# Altium schematic symbol library MCU.SchLib: 78 symbols (part 2 of 2)
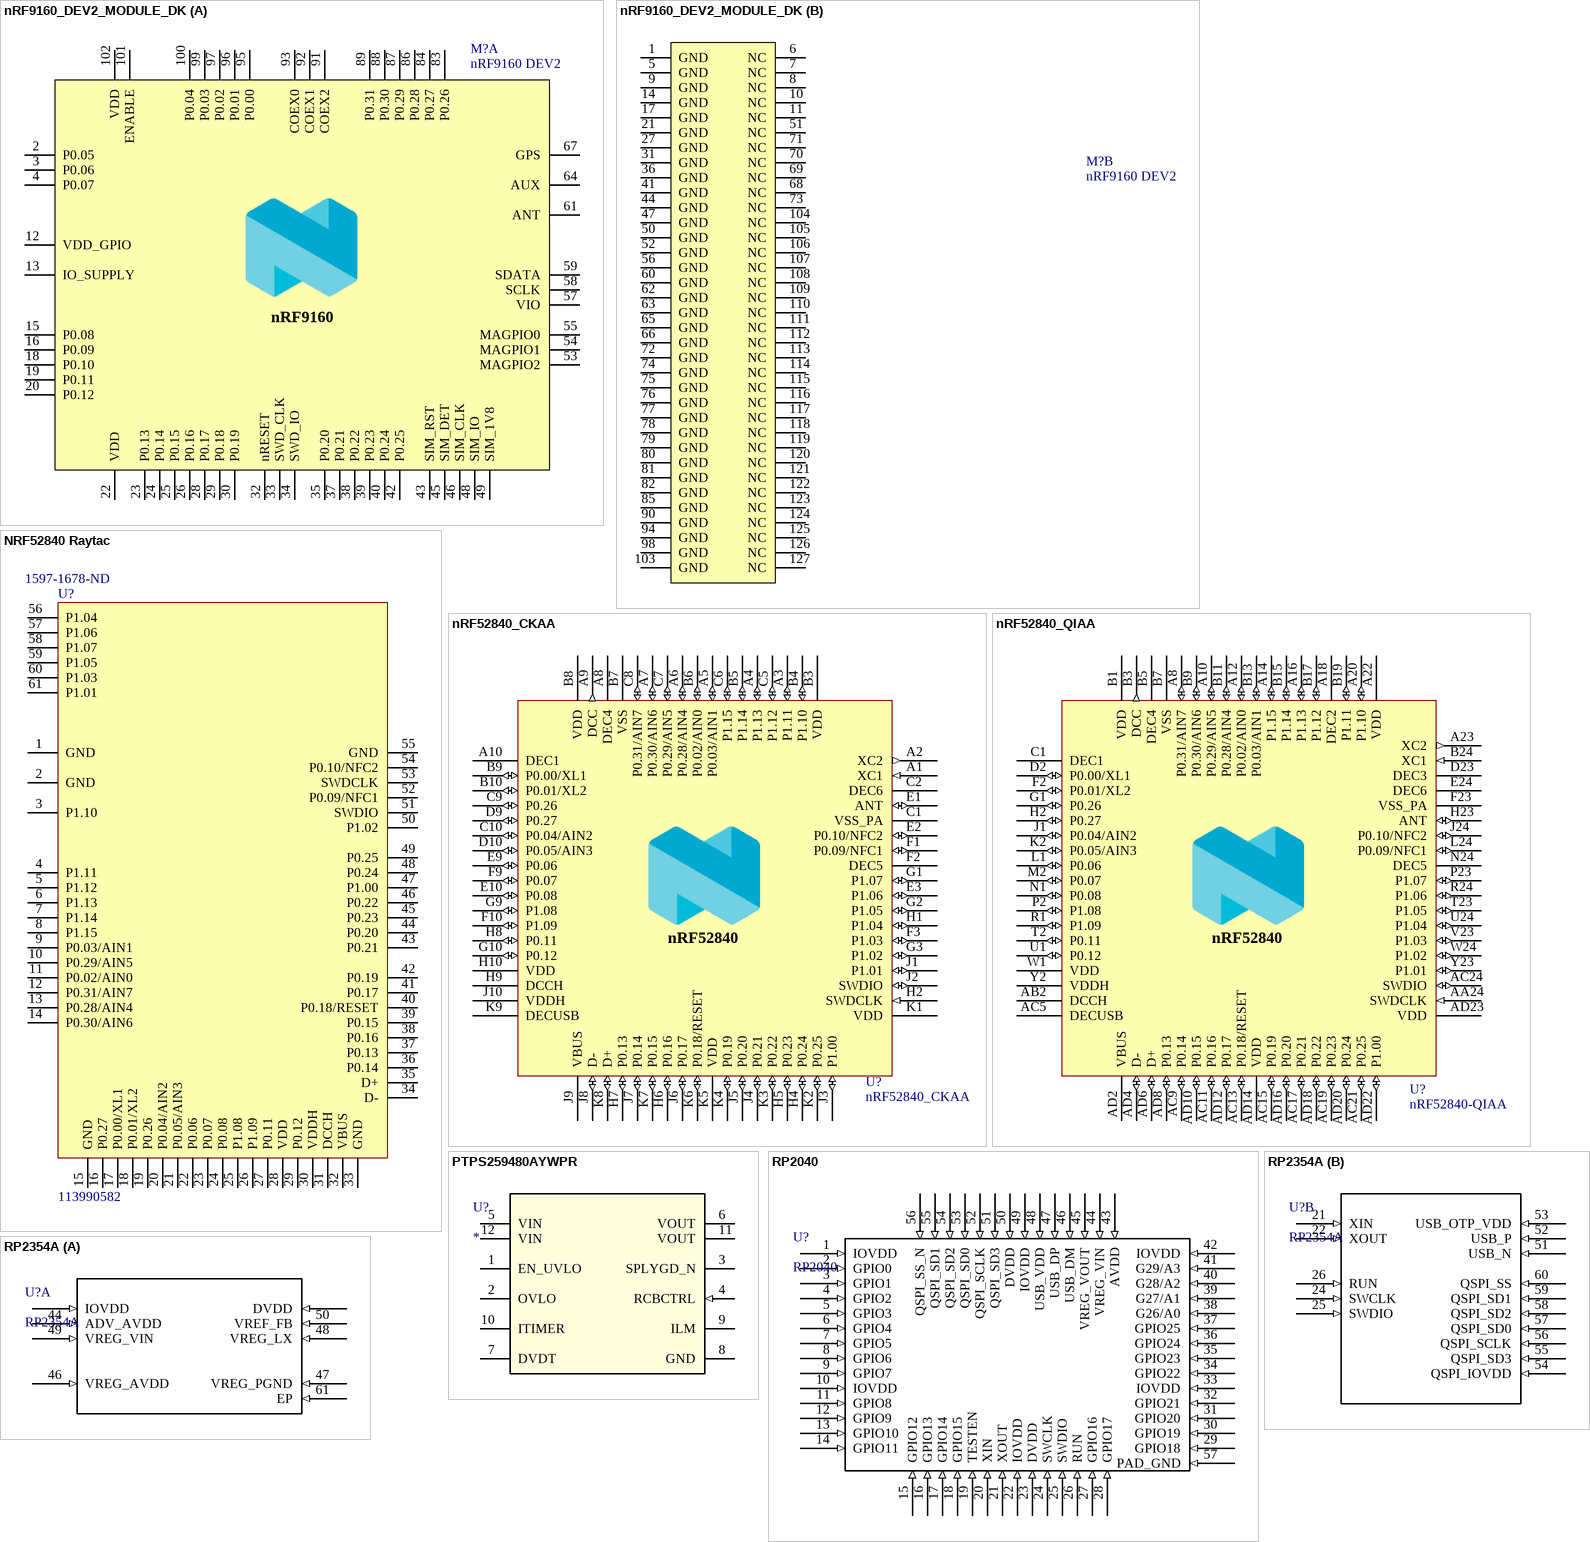
[diagram p8: symbols nRF9160_DEV2_MODULE_DK to RP2354A]

## nRF52840_QIAA
designator U?, comment nRF52840-QIAA
Multi-protocol Bluetooth Low Energy, IEEE 802.15.4, ANT and 2.4GHz proprietary system-on-chip; Part Number: nRF52840-QIAAC0; Manufacturer: Nordic Semiconductor; Part number IPS: N.A.; Artikkelnr Noca: 15079380; Manufacturer Part Number: nRF52840-QIAAC0; LatestRevisionDate: 2018-02-27; Pin Count: 73; Publisher: Nordic Semiconductor; Published: 2017-08-21; Value: nRF52840-QIAA; Note: *; Footprint Doc: AQFN-73; ComponentLink1URL: *; ComponentLink1Description: Datasheet; ComponentLink2URL: *; ComponentLink2Description: Supplier link; HelpURL: *; Supplier 1: Nordic Semiconductor; Supplier Part Number 1: nRF52840-QIAAC0; Supplier 2: *; Supplier Part Number 2: *
footprint AQFN50P700X700X85_HS-74N
pins: 74 GND (power) hidden to GND, A8 P0.31/AIN7 (io), A10 P0.29/AIN5 (io), A12 P0.02/AIN0 (io), A14 P1.15 (io), A16 P1.13 (io), A18 DEC2 (power), A20 P1.10 (io), A22 VDD (power), A23 XC2 (out), AA24 SWDCLK (in), AB2 DCCH (power), AC5 DECUSB (power), AC9 P0.14 (io), AC11 P0.16 (io), AC13 P0.18/RESET (io), AC15 P0.19 (io), AC17 P0.21 (io), AC19 P0.23 (io), AC21 P0.25 (io), AC24 SWDIO (io), AD2 VBUS (power), AD4 D- (io), AD6 D+ (io), AD8 P0.13 (io), AD10 P0.15 (io), AD12 P0.17 (io), AD14 VDD (power), AD16 P0.20 (io), AD18 P0.22 (io), AD20 P0.24 (io), AD22 P1.00 (io), AD23 VDD (power), B1 VDD (power), B3 DCC (out), B5 DEC4 (power), B7 VSS (power), B9 P0.30/AIN6 (io), B11 P0.28/AIN4 (io), B13 P0.03/AIN1 (io), B15 P1.14 (io), B17 P1.12 (io), B19 P1.11 (io), B24 XC1 (in), C1 DEC1 (power), D2 P0.00/XL1 (io), D23 DEC3 (power), E24 DEC6 (power), F2 P0.01/XL2 (io), F23 VSS_PA (power), G1 P0.26 (io), H2 P0.27 (io), H23 ANT (io), J1 P0.04/AIN2 (io), J24 P0.10/NFC2 (io), K2 P0.05/AIN3 (io), L1 P0.06 (io), L24 P0.09/NFC1 (io), M2 P0.07 (io), N1 P0.08 (io), N24 DEC5 (power), P2 P1.08 (io), P23 P1.07 (io), R1 P1.09 (io), R24 P1.06 (io), T2 P0.11 (io), T23 P1.05 (io), U1 P0.12 (io), U24 P1.04 (io), V23 P1.03 (io), W1 VDD (power), W24 P1.02 (io), Y2 VDDH (power), Y23 P1.01 (io)
text: nRF52840

## PTPS259480AYWPR
designator U?
No Description Available; Mfr_Name: Texas Instruments; TYPE: TYPE; RefDes: RefDes
footprint YWP0012A-MFG
pins: 1 EN_UVLO, 2 OVLO, 3 SPLYGD_N (oc), 4 RCBCTRL (in), 5 VIN (power), 6 VOUT (power), 7 DVDT, 8 GND (power), 9 ILM, 10 ITIMER, 11 VOUT (power), 12 VIN (power)

## RP2040
designator U?
RP2040 First MCU from RPI
footprint RP2040
pins: 1 IOVDD (in), 2 GPIO0 (in), 3 GPIO1 (in), 4 GPIO2 (in), 5 GPIO3 (in), 6 GPIO4 (in), 7 GPIO5 (in), 8 GPIO6 (in), 9 GPIO7 (in), 10 IOVDD (in), 11 GPIO8 (in), 12 GPIO9 (in), 13 GPIO10 (in), 14 GPIO11 (in), 15 GPIO12 (in), 16 GPIO13 (in), 17 GPIO14 (in), 18 GPIO15 (in), 19 TESTEN (in), 20 XIN (in), 21 XOUT (in), 22 IOVDD (in), 23 DVDD (in), 24 SWCLK (in), 25 SWDIO (in), 26 RUN (in), 27 GPIO16 (in), 28 GPIO17 (in), 29 GPIO18 (in), 30 GPIO19 (in), 31 GPIO20 (in), 32 GPIO21 (in), 33 IOVDD (in), 34 GPIO22 (in), 35 GPIO23 (in), 36 GPIO24 (in), 37 GPIO25 (in), 38 G26/A0 (in), 39 G27/A1 (in), 40 G28/A2 (in), 41 G29/A3 (in), 42 IOVDD (in), 43 AVDD (in), 44 VREG_VIN (in), 45 VREG_VOUT (in), 46 USB_DM (in), 47 USB_DP (in), 48 USB_VDD (in), 49 IOVDD (in), 50 DVDD (in), 51 QSPI_SD3 (in), 52 QSPI_SCLK (in), 53 QSPI_SD0 (in), 54 QSPI_SD2 (in), 55 QSPI_SD1 (in), 56 QSPI_SS_N (in), 57 PAD_GND (in)

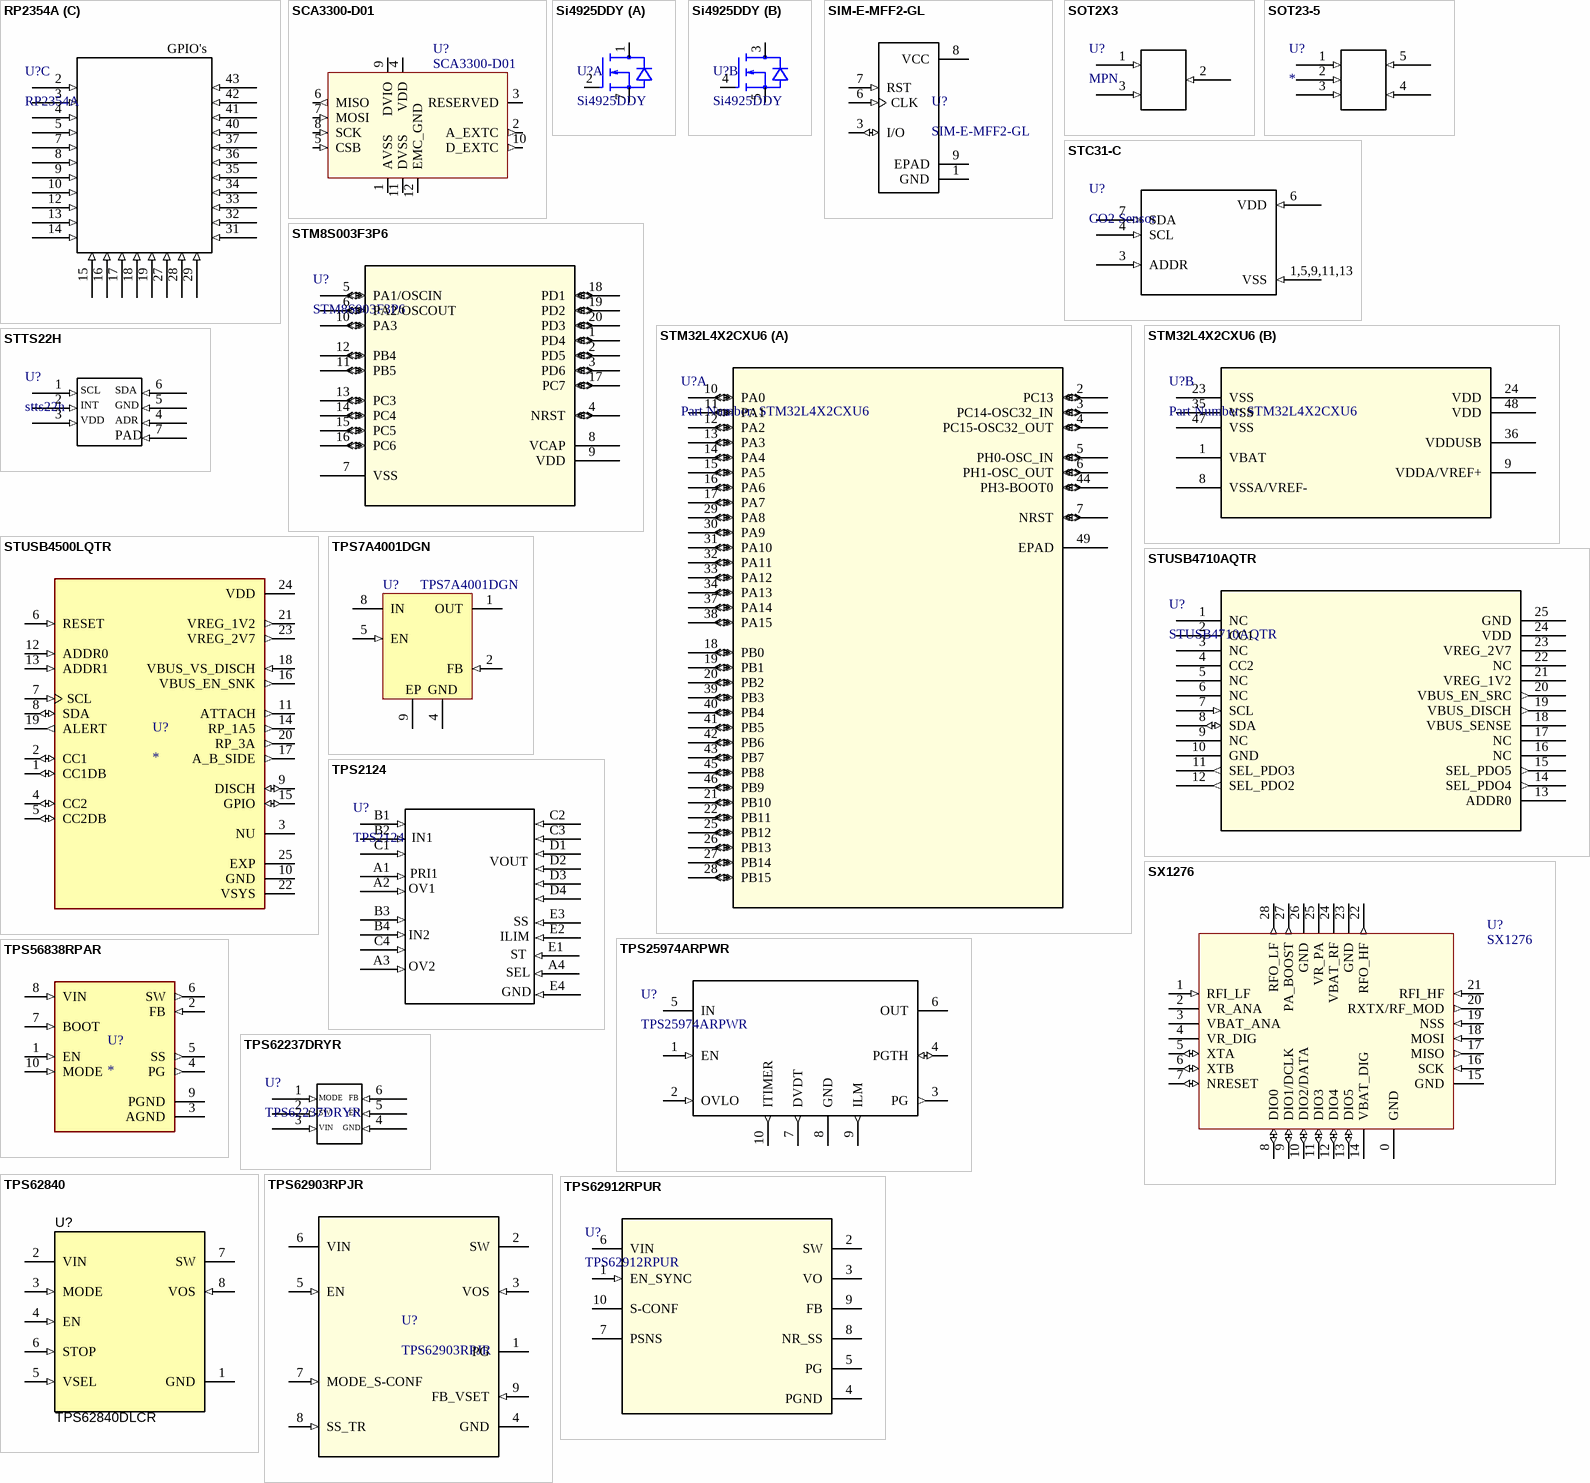
[diagram p6: symbols RP2354A to TPS62912RPUR]

## RP2354A
designator U?
RP2354A: 30 GPIO, 7x7 QFN60, 2MB stacked flash
footprint RP2354A (QFN, 60-Leads, Body 7.00x7.00mm, Pitch 0.40mm, Thermal Pad 3.40x3.40mm, IPC High Density)
part A pins: 1,11,30,38,45,20 IOVDD (in), 6,23,39 DVDD (in), 44 ADV_AVDD (in), 46 VREG_AVDD (in), 47 VREG_PGND (in), 48 VREG_LX (in), 49 VREG_VIN (in), 50 VREF_FB (in), 61 EP (in)
part B pins: 21 XIN (in), 22 XOUT (in), 24 SWCLK (in), 25 SWDIO (in), 26 RUN (in), 51 USB_N (in), 52 USB_P (in), 53 USB_OTP_VDD (in), 54 QSPI_IOVDD (in), 55 QSPI_SD3 (in), 56 QSPI_SCLK (in), 57 QSPI_SD0 (in), 58 QSPI_SD2 (in), 59 QSPI_SD1 (in), 60 QSPI_SS (in)
part C pins: 2 (in), 3 (in), 4 (in), 5 (in), 7 (in), 8 (in), 9 (in), 10 (in), 12 (in), 13 (in), 14 (in), 15 (in), 16 (in), 17 (in), 18 (in), 19 (in), 27 (in), 28 (in), 29 (in), 31 (in), 32 (in), 33 (in), 34 (in), 35 (in), 36 (in), 37 (in), 40 (in), 41 (in), 42 (in), 43 (in)
part C text: GPIO's

## SCA3300-D01
designator U?
SCA3300-D01 3-axis Industrial Accelerometer and Inclinometer with Digital SPI Interface, Supply 3V0 .. 3V6, OpTemp -40 .. 125°C; RevisionEditor: jansen; RevisionNr: 0; Part Number: SCA 3300-D01; Component Type: Standard; Footprint: SCA3300-D01; ComponentLink2Description: Datasheet; ComponentLink2URL: http://tssx1/Datasheet/SCA 3300-D01.pdf; RevisionDate: 28.03.2018 13:07:14; Approved: 0; Supplier Part Number 1: 2786923; Supplier 1: Farnell
footprint SCA3300-D01
pins: 1 AVSS (power) "Analog reference ground, connect externally to AVSS", 2 A_EXTC (out) "External capacitor connection for positive reference voltage", 3 RESERVED "Factory use only, leave floating or connect to GND", 4 VDD (power) "Analog Supply voltage", 5 CSB (in) "Chip Select of SPI Interface, 3.3V logic compatible Schmitt-trigger input", 6 MISO (out) "Data Out of SPI Interface", 7 MOSI (in) "Data In of SPI Interface, 3.3V logic compatible Schmitt-trigger input", 8 SCK (in) "CLK signal of SPI Interface", 9 DVIO (power) "SPI interface Supply Voltage", 10 D_EXTC (out) "External capacitor connection for digital core", 11 DVSS (power) "Digital Supply Return, connect externally to GND", 12 EMC_GND (power) "EMC ground pin, connect externally to AVSS"

## Si4925DDY
designator U?
Si4925DDY, dual mosfet
footprint si4925dd (Dual Mosfet)
part A pins: 1 D, 2 G, 7 S
part B pins: 3 D, 4 G, 5 S

## SIM-E-MFF2-GL
designator U?
GLOBAL IOT EMBEDDED SIM CHIP, SIM-E-MFF2-GL; MP: SIM-ST-MFF2; MF: Hologram, Inc.; SnapEDA_Link: https://www.snapeda.com/parts/SIM-ST-MFF2/Hologram%2C%20Inc./view-part/3075908/?ref=snap; Availability: Unavailable; Price: None; Value: *; Package: None
footprint PSON127P500X600X82-9N
pins: 1 GND (power), 3 I/O (io), 6 CLK (in), 7 RST (in), 8 VCC (power), 9 EPAD

## SOT2X3
designator U?, comment MPN
Generic Sot223 or Sot23-3 package 3 pin
footprint SOT223 (SOT223, Pitch 0.95mm, IPC High Density)
footprint SOT23-3 (SOT23, 5-Leads, Body 2.95x2.80mm, Pitch 0.95mm, IPC High Density)
footprint BSS316NH6327XTSA1 (SOT23, 5-Leads, Body 2.95x2.80mm, Pitch 0.95mm, IPC High Density)
pins: 1 (in), 2 (in), 3 (in)

## SOT23-5
designator U?
Generic Sot23 5 pin package
footprint SOT23-5_L
pins: 1 (in), 2 (in), 3 (in), 4 (in), 5 (in)

## STC31-C
designator U?, comment CO2 Sensor
CO₂ accuracy of ±(0.2 - 2.0 vol%) @0-100 vol%
footprint STC31-C (Footprint not found)
pins: 1,5,9,11,13 VSS (in), 3 ADDR (in), 4 SCL (in), 6 VDD (in), 7 SDA (in)

## STM8S003F3P6
designator U?
No Description Available; Vendor: STMicroelectronics; Built_By: EMA_UL_Team; SourceLibrary: Updates_to_database_2020-10-19; Manufacturer_Part_Number: STM8S003F3P6; Copyright: Copyright (C) 2018 Accelerated Designs. All rights reserved; RefDes: RefDes; Type: DEV
footprint TSSOP20
pins: 1 PD4 (io), 2 PD5 (io), 3 PD6 (io), 4 NRST (io), 5 PA1/OSCIN (io), 6 PA2/OSCOUT (io), 7 VSS (power), 8 VCAP (power), 9 VDD (power), 10 PA3 (io), 11 PB5 (io), 12 PB4 (io), 13 PC3 (io), 14 PC4 (io), 15 PC5 (io), 16 PC6 (io), 17 PC7 (io), 18 PD1 (io), 19 PD2 (io), 20 PD3 (io)

## STM32L4X2CXU6
designator U?, comment Part Number: STM32L4X2CXU6
No Description Available; Vendor: STMicroelectronics; Manufacturer_Part_Number: STM32L4X2CXU6; Copyright: Copyright (C) 2016 Accelerated Designs. All rights reserved; RefDes: RefDes; Type: DEV; Value: Value
footprint UFQFPN48-7x7mm
part A pins: 2 PC13 (io), 3 PC14-OSC32_IN (io), 4 PC15-OSC32_OUT (io), 5 PH0-OSC_IN (io), 6 PH1-OSC_OUT (io), 7 NRST (io), 10 PA0 (io), 11 PA1 (io), 12 PA2 (io), 13 PA3 (io), 14 PA4 (io), 15 PA5 (io), 16 PA6 (io), 17 PA7 (io), 18 PB0 (io), 19 PB1 (io), 20 PB2 (io), 21 PB10 (io), 22 PB11 (io), 25 PB12 (io), 26 PB13 (io), 27 PB14 (io), 28 PB15 (io), 29 PA8 (io), 30 PA9 (io), 31 PA10 (io), 32 PA11 (io), 33 PA12 (io), 34 PA13 (io), 37 PA14 (io), 38 PA15 (io), 39 PB3 (io), 40 PB4 (io), 41 PB5 (io), 42 PB6 (io), 43 PB7 (io), 44 PH3-BOOT0 (io), 45 PB8 (io), 46 PB9 (io), 49 EPAD
part B pins: 1 VBAT (power), 8 VSSA/VREF- (power), 9 VDDA/VREF+ (power), 23 VSS (power), 24 VDD (power), 35 VSS (power), 36 VDDUSB (power), 47 VSS (power), 48 VDD (power)

## STTS22H
designator U?, comment stts22h
I2C temperature sensor, Low power 0.5C accuracy. Factory calibrated -40 to 125C. ADDR=GND (0x7E Write, 0x7F Read); ComponentLink1Description: Datasheet; ComponentLink1URL: https://www.st.com/resource/en/datasheet/stts22h.pdf; Supplier 1: Mouser; Supplier Part Number 1: 511-STTS22HTR
footprint STTS22H
pins: 1 (in), 2 (in), 3 (in), 4 (in), 5 (in), 6 (in), 7 (in)
text: SCL; SDA; INT; GND; VDD; ADR; PAD

## STUSB4500LQTR
designator U?
USB Controller USB 2.0 IÂ²C Interface 24-QFN-EP (4x4); MF: STMicroelectronics; MP: STUSB4500LQTR; Check_prices: https://www.snapeda.com/parts/STUSB4500LQTR/STMicroelectronics/view-part/4725448/?ref=eda; Availability: Warning; Price: None; SnapEDA_Link: https://www.snapeda.com/parts/STUSB4500LQTR/STMicroelectronics/view-part/4725448/?ref=snap; Value: *; Package: VFQFN-24 STMicroelectronics; Purchase-URL: https://pricing.snapeda.com/search/part/STUSB4500LQTR/?ref=eda
footprint QFN50P400X400X100-25N
pins: 1 CC1DB (io), 2 CC1 (io), 3 NU, 4 CC2 (io), 5 CC2DB (io), 6 RESET (in), 7 SCL (in), 8 SDA (io), 9 DISCH (io), 10 GND (power), 11 ATTACH (out), 12 ADDR0 (in), 13 ADDR1 (in), 14 RP_1A5 (out), 15 GPIO (io), 16 VBUS_EN_SNK (out), 17 A_B_SIDE (out), 18 VBUS_VS_DISCH (in), 19 ALERT (out), 20 RP_3A (out), 21 VREG_1V2 (out), 22 VSYS (power), 23 VREG_2V7 (out), 24 VDD (power), 25 EXP (power)

## STUSB4710AQTR
designator U?
No Description Available; Vendor: STMicroelectronics; Built_By: EMA_Cory; SourceLibrary: Add_to_database_2020-12-21; Datasheet: https://www.st.com/resource/en/datasheet/stusb4710.pdf; Manufacturer_Part_Number: STUSB4710AQTR; Copyright: Copyright (C) 2018 Accelerated Designs. All rights reserved; RefDes: RefDes; Type: DEV
footprint STUSB4710AQTR (Footprint not found)
pins: 1 NC, 2 CC1, 3 NC, 4 CC2, 5 NC, 6 NC, 7 SCL (in), 8 SDA (io), 9 NC, 10 GND, 11 SEL_PDO3 (out), 12 SEL_PDO2 (out), 13 ADDR0, 14 SEL_PDO4 (out), 15 SEL_PDO5 (out), 16 NC, 17 NC, 18 VBUS_SENSE, 19 VBUS_DISCH (out), 20 VBUS_EN_SRC (out), 21 VREG_1V2, 22 NC, 23 VREG_2V7, 24 VDD (power), 25 GND

## SX1276
designator U?
SX1276 - 137 MHz to 1020 MHz Low Power Long Range Transceiver
footprint SEMTECH_QFN-28
pins: 0 GND (power), 1 RFI_LF (in) "RF input for bands 2&3", 2 VR_ANA (power) "Regulated supply voltage for analogue circuitry", 3 VBAT_ANA (power) "Supply voltage for analogue circuitry", 4 VR_DIG (power) "Regulated supply voltage for digital blocks", 5 XTA (io) "XTAL connection or TCXO input", 6 XTB (io) "XTAL connection", 7 NRESET (io) "Reset trigger input", 8 DIO0 (io) "Digital I/O, software configured", 9 DIO1/DCLK (io) "Digital I/O, software configured", 10 DIO2/DATA (io) "Digital I/O, software configured", 11 DIO3 (io) "Digital I/O, software configured", 12 DIO4 (io) "Digital I/O, software configured", 13 DIO5 (io) "Digital I/O, software configured", 14 VBAT_DIG (power) "Supply voltage for digital blocks", 15 GND (power), 16 SCK (in) "SPI Clock input", 17 MISO (out) "SPI Data output", 18 MOSI (in) "SPI Data input", 19 NSS (in) "SPI Chip select input", 20 RXTX/RF_MOD (out) "Rx/Tx switch control: high in Tx", 21 RFI_HF (in) "RF input for band 1", 22 RFO_HF (out) "RF output for band 1", 23 GND (power), 24 VBAT_RF (power) "Supply voltage for RF blocks", 25 VR_PA (power) "Regulated supply for the PA", 26 GND (power), 27 PA_BOOST (out) "Optional high-power PA output, all frequency bands", 28 RFO_LF (out) "RF output for bands 2&3"

## TPS7A4001DGN
designator U?
100V Input, 50mA, Single Output Low-Dropout Linear Regulator, Texas Instruments; RevisionEditor: cousin; RevisionNr: 0; Part Number: TPS7A4001DGN; Component Type: Standard; Footprint: DGN_R-PDSO-G8_TI; ComponentLink2Description: Datasheet; ComponentLink2URL: http://tssx1/Datasheet/TPS7A4001DGN.pdf; RevisionDate: 12.03.2018 18:06:18; Approved: 0; LastModifier: cousin; Supplier Part Number 1: 595-TPS7A4001DGNT; Supplier 1: Mouser
footprint DGN_R-PDSO-G8_TI
pins: 1 OUT (power) "Regulator output. A capacitor greater than 4.7 uF must be tied from this pin to ground to assure stability.", 2 FB (in) "This pin is the input to the control-loop error amplifier. It is used to set the output voltage of the device.", 4 GND (power) "Ground", 5 EN (in) "This pin turns the regulator on or off. If VEN >= VEN_HI the regulator is enabled. If VEN =< VEN_LO, the regulator is disabled. If not used, the EN pin can be connected to IN. Make sure that VEN =< VIN at all times.", 8 IN (power) "Input supply", 9 EP (power) "Solder to printed circuit board (PCB) to enhance thermal performance. NOTE: The PowerPAD is internally connected to GND. Although it can be left floating, it is highly recommended to connect the PowerPAD to the GND plane."

## TPS2124
designator U?
2.8-V to 22-V 2A priority power MUX with seamless switchover
footprint TPS2124 (priority power MUX with seamless switchover)
pins: A1 (in), A2 (in), A3 (in), A4 (in), B1 (in), B2 (in), B3 (in), B4 (in), C1 (in), C2 (in), C3 (in), C4 (in), D1 (in), D2 (in), D3 (in), D4 (in), E1 (in), E2 (in), E3 (in), E4 (in)
text: IN1; VOUT; PRI1; OV1; SS; IN2; ILIM; ST; OV2; SEL; GND

## TPS25974ARPWR
designator U?
IC ELECTRONIC FUSE 10% 10VQFN; Mfr_Name: Texas Instruments; RefDes: RefDes; Type: Type
footprint TPS25974ARPWR (eFuse)
pins: 1 EN (in), 2 OVLO (in), 3 PG (out), 4 PGTH (io), 5 IN (power), 6 OUT (power), 7 DVDT (out), 8 GND (power), 9 ILM (out), 10 ITIMER (out)

## TPS56838RPAR
designator U?
MP: TPS56838RPAR; Package: None; Price: None; Value: *; Availability: Unavailable
footprint CONV_TPS56838RPAR (Footprint not found)
pins: 1 EN (in), 2 FB (in), 3 AGND (power), 4 PG (out), 5 SS (out), 6 SW (out), 7 BOOT (in), 8 VIN (in), 9 PGND (power), 10 MODE (in)

## TPS62237DRYR
designator U?
DC regulator 5VIN 3V3VOUT
footprint TPS62237DRYR
pins: 1 (in), 2 (in), 3 (in), 4 (in), 5 (in), 6 (in)
text: MODE; FB; SW; EN; VIN; GND

## TPS62840
designator U?, comment TPS62840DLCR
Ultra low IQ Step Down Converter, DLC0008A (VSON-HR-8); Alternate Manufacturer: Texas Instruments; SizeAreaWB_mm2: 7.5; SizeZ_mm: 1; SizeX_mm: 1.5; SizeY_mm: 2; SizeArea_mm2: 3; CompType: IC; AEC Qualified: N; AEC Category: Q200; ComponentLink1URL: http://www.ti.com/lit/ds/symlink/tps62840.pdf; PackageDescription: VSON-HR-8; MountType: SMT; ComponentLink2URL: http://www.ti.com/product/tps62840; ComponentLink3Description: Online Datasheet; ComponentLink2Description: Product Folder; Manufacturer: Texas Instruments; ComponentLink3URL: http://www.ti.com/product/tps62840/datasheet; PackageReference: DLC0008A; ComponentLink1Description: Datasheet Link; Operating Temperature Range: -40 to 125 C; Supplier 1: Mouser; Supplier Part Number 1: 595-TPS62840DLCR; PartNumber: TPS62840DLCR
footprint TPS62840
pins: 1 GND (power), 2 VIN (power), 3 MODE (in), 4 EN (in), 5 VSEL (in), 6 STOP (in), 7 SW (power), 8 VOS (in)

## TPS62903RPJR
designator U?
3V3 DC regulator; Manufacturer: Texas Instruments; PartNumber: TPS62903RPJR; RefDes: RefDes; Type: DEV; Value: Value; Copyright: Copyright (C) 2021 Accelerated Designs. All rights reserved
footprint TPS62903RPJR (Footprint not found)
pins: 1 PG (oc), 2 SW (power), 3 VOS (in), 4 GND (power), 5 EN (in), 6 VIN (power), 7 MODE_S-CONF (in), 8 SS_TR (in), 9 FB_VSET (in)

## TPS62912RPUR
designator U?
Dc Switching reg; Manufacturer: Texas Instruments; PartNumber: TPS62912RPUR; RefDes: RefDes; Type: DEV; Value: Value; Copyright: Copyright (C) 2021 Accelerated Designs. All rights reserved
footprint TPS62912RPUR (Footprint not found)
pins: 1 EN_SYNC (in), 2 SW, 3 VO, 4 PGND (power), 5 PG (oc), 6 VIN (power), 7 PSNS (power), 8 NR_SS, 9 FB, 10 S-CONF (power)

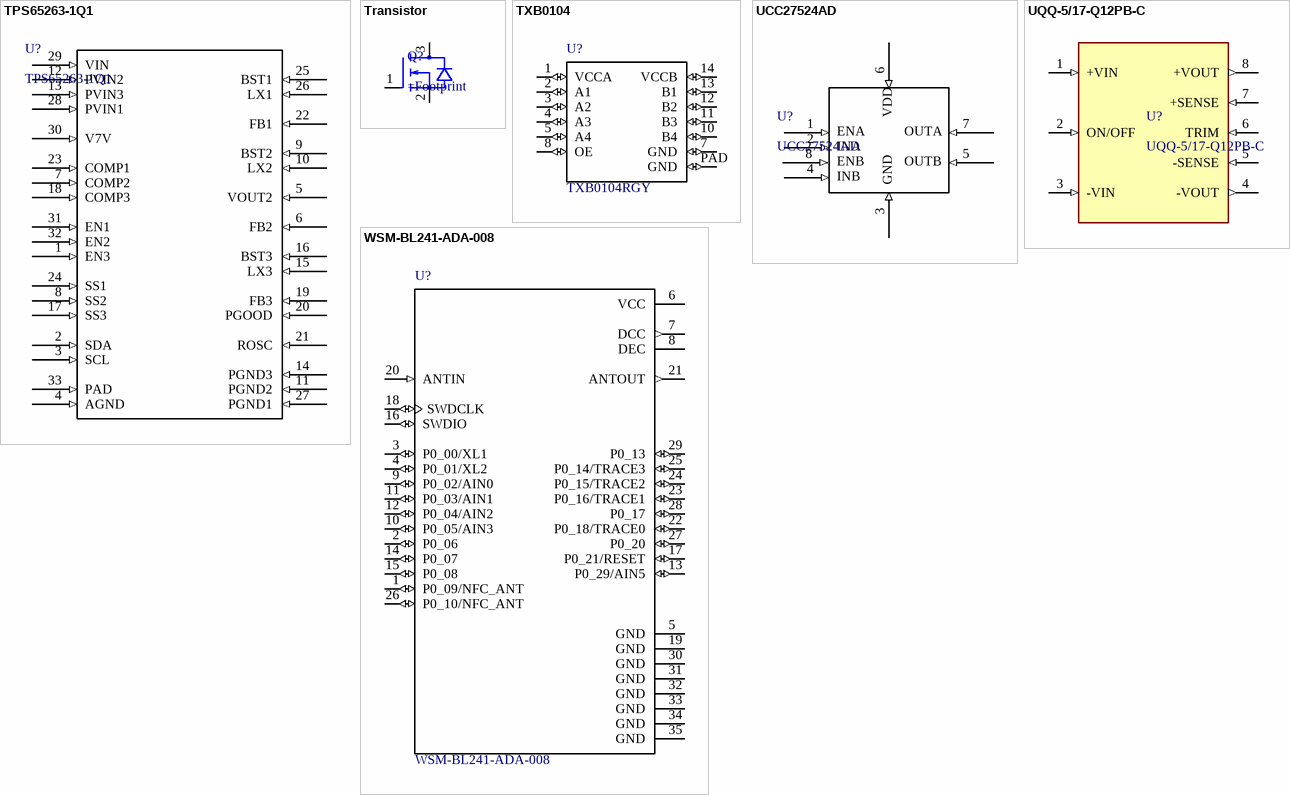
[diagram p7: symbols TPS65263-1Q1 to WSM-BL241-ADA-008]

## TPS65263-1Q1
designator U?
4.5V-18V Input, Triple 3A/2A/2A Synchronous Buck Converter
footprint TPS65263-1Q1
pins: 1 EN3 (in), 2 SDA (in), 3 SCL (in), 4 AGND (in), 5 VOUT2 (in), 6 FB2 (in), 7 COMP2 (in), 8 SS2 (in), 9 BST2 (in), 10 LX2 (in), 11 PGND2 (in), 12 PVIN2 (in), 13 PVIN3 (in), 14 PGND3 (in), 15 LX3 (in), 16 BST3 (in), 17 SS3 (in), 18 COMP3 (in), 19 FB3 (in), 20 PGOOD (in), 21 ROSC (in), 22 FB1 (in), 23 COMP1 (in), 24 SS1 (in), 25 BST1 (in), 26 LX1 (in), 27 PGND1 (in), 28 PVIN1 (in), 29 VIN (in), 30 V7V (in), 31 EN1 (in), 32 EN2 (in), 33 PAD (in)

## Transistor
designator Q?
N-Channel 20V 100mA _Ta_ 150mW _Ta_ Surface Mount VMT3; MF: Rohm; MP: RUM001L02T2CL; Value: *; SnapEDA_Link: https://www.snapeda.com/parts/RUM001L02T2CL/Rohm/view-part/531428/?ref=snap; Digi-Key_Part_Number: RUM001L02T2CLCT-ND; Digi-Key_Purchase_URL: https://www.digikey.com/product-detail/en/rohm-semiconductor/RUM001L02T2CL/RUM001L02T2CLCT-ND/4571412?utm_source=snapeda&utm_medium=aggregator&utm_campaign=symbol; Package: SOT-723 Rohm
footprint SOTFL3P40_120X120X55L30X32N
footprint SOT23-3 (SOT23, 5-Leads, Body 2.95x2.80mm, Pitch 0.95mm, IPC High Density)
footprint SOT323 (Si1308EDL)
footprint BSS316NH6327XTSA1 (SOT23, 5-Leads, Body 2.95x2.80mm, Pitch 0.95mm, IPC High Density)
pins: 1 G, 2 S, 3 D

## TXB0104
designator U?, comment TXB0104RGY
4-Bit Bidirectional Voltage-Level Translator with Auto Direction Sensing and +/-15 kV ESD Protect
footprint TXB0104RGY (Footprint not found)
pins: 1 VCCA (io), 2 A1 (io), 3 A2 (io), 4 A3 (io), 5 A4 (io), 7 GND (io), 8 OE (io), 10 B4 (io), 11 B3 (io), 12 B2 (io), 13 B1 (io), 14 VCCB (io), PAD GND (io)

## UCC27524AD
designator U?
UCC27524AD, Mosfet Driver
footprint UCC27524AD
pins: 1 (in), 2 (in), 3 (in), 4 (in), 5 (in), 6 (in), 7 (in), 8 (in)
text: VDD; ENA; OUTA; INA; ENB; OUTB; INB; GND

## UQQ-5/17-Q12PB-C
designator U?
Isolated Module DC DC Converter 1 Output 5V 17A 10V - 36V Input; MF: Murata Power; MP: UQQ-24/4-Q12PB-C; Value: *; SnapEDA_Link: https://www.snapeda.com/parts/UQQ-24/4-Q12PB-C/Murata%20Power%20Solutions%20Inc./view-part/285191/?ref=snap; Digi-Key_Purchase_URL: https://www.digikey.com/product-detail/en/murata-power-solutions-inc/UQQ-24-4-Q12PB-C/811-1889-ND/1980347?utm_source=snapeda&utm_medium=aggregator&utm_campaign=symbol; Digi-Key_Part_Number: 811-1889-ND; Package: DIP-8 Murata Power Solutions
footprint UQQ-5/17-Q12PB-C (UQQ series Isolated supply)
pins: 1 +VIN (in), 2 ON/OFF (in), 3 -VIN (in), 4 -VOUT (out), 5 -SENSE (in), 6 TRIM (in), 7 +SENSE (in), 8 +VOUT (out)

## WSM-BL241-ADA-008
designator U?
Bluetooth Low Energy/NFC module 1Mbps LGA; MF: Murata Electronics; Price: None; SnapEDA_Link: https://www.snapeda.com/parts/WSM-BL241-ADA-008/Murata%20Electronics%20North%20America/view-part/?ref=snap; Availability: Unavailable; Package: Module Murata; MP: WSM-BL241-ADA-008; Value: *; Supplier 1: Digi-Key; Supplier Part Number 1: 490-17329-1-ND
footprint Murata_WSM-BL241-ADA-008
pins: 1 P0_09/NFC_ANT (io), 2 P0_06 (io), 3 P0_00/XL1 (io), 4 P0_01/XL2 (io), 5 GND (power), 6 VCC (power), 7 DCC (out), 8 DEC, 9 P0_02/AIN0 (io), 10 P0_05/AIN3 (io), 11 P0_03/AIN1 (io), 12 P0_04/AIN2 (io), 13 P0_29/AIN5 (io), 14 P0_07 (io), 15 P0_08 (io), 16 SWDIO (io), 17 P0_21/RESET (io), 18 SWDCLK (io), 19 GND (power), 20 ANTIN (in), 21 ANTOUT (out), 22 P0_18/TRACE0 (io), 23 P0_16/TRACE1 (io), 24 P0_15/TRACE2 (io), 25 P0_14/TRACE3 (io), 26 P0_10/NFC_ANT (io), 27 P0_20 (io), 28 P0_17 (io), 29 P0_13 (io), 30 GND (power), 31 GND (power), 32 GND (power), 33 GND (power), 34 GND (power), 35 GND (power)